# Altium footprint library ELEC(6.3X6.0)-SMD.PcbLib: 1 footprints
Each footprint in its own frame and in the unit in brackets; x right, y up, seen from the top. Pads: shape width x height; smd on the part's side, far side on the other; paste and mask are expansions set on the pad; w line width, h text height; cw(c..) or ccw(c..) is an arc to the next point about the centre after c.
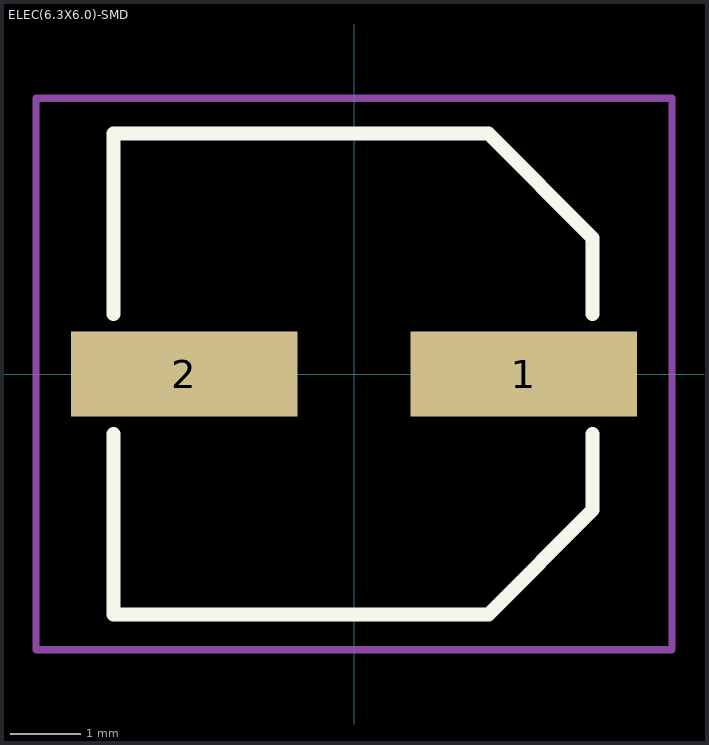
[diagram p0: the footprint, top view; thin cyan lines are the x and y axes]

## ELEC(6.3X6.0)-SMD [mm]
pads (2):
  rect 3.2x1.2 smd: 1(2.4,0) 2(-2.4,0)
Top Overlay:
  lines w0.2: -3.4,-0.85 -3.4,-3.4 1.9,-3.4 3.375,-1.925 3.375,-0.85 ; -3.4,0.85 -3.4,3.4 1.9,3.4 3.375,1.925 3.375,0.85
Top Courtyard:
  lines w0.1: -4.5,-0.6 -4.5,-3.9 ; -3.4,-3.9 -4.5,-3.9 ; 3.4,3.9 4.5,3.9 ; 4.5,0.6 4.5,3.9 ; -4.5,-3.9 -4.5,3.9 4.5,3.9 ; -4.5,-3.9 4.5,-3.9 4.5,3.9
3D body "EEV277M6R3A9NAA.step": height 6.1, standoff 0, extent -3.4,-3.4 3.4,3.4